# Altium footprint library PcbLib1.PcbLib: 3 footprints
Each footprint in its own frame and in the unit in brackets; x right, y up, seen from the top. Pads: shape width x height; smd on the part's side, far side on the other; paste and mask are expansions set on the pad; w line width, h text height; cw(c..) or ccw(c..) is an arc to the next point about the centre after c.
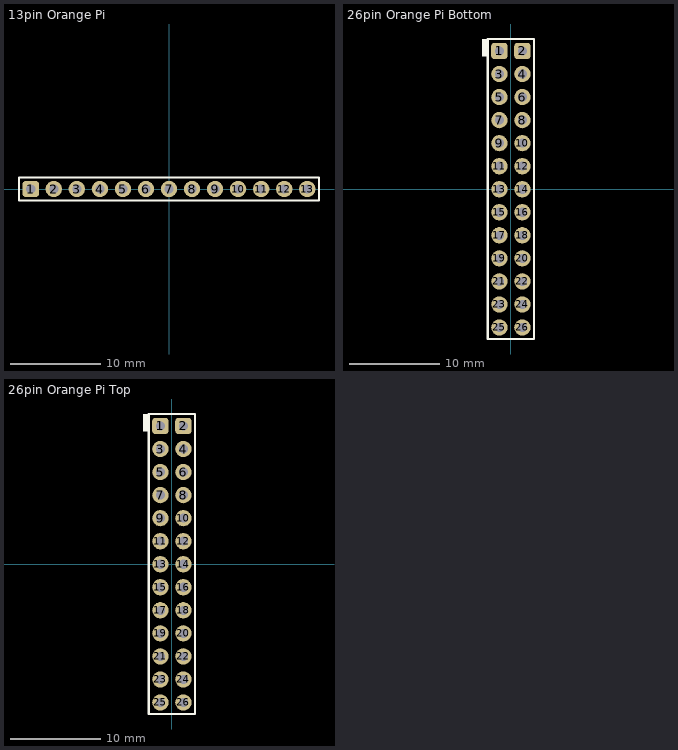
[diagram p0: the footprints below, top view; thin cyan lines are the x and y axes]

## 13pin Orange Pi [mm]
pads (13):
  rrect40% 1.8x1.8 hole 1: 1(-15.24,0)
  round 1.8 hole 1: 2(-12.7,0) 3(-10.16,0) 4(-7.62,0) 5(-5.08,0) 6(-2.54,0) 7(0,0) 8(2.54,0) 9(5.08,0) 10(7.62,0) 11(10.16,0) 12(12.7,0) 13(15.24,0)
Top Overlay:
  lines w0.254: -16.535,-1.27 16.535,-1.27 16.535,1.27 -16.535,1.27 -16.535,-1.27
Mechanical 9:
  text ".Comment" at -3.066,-0.6 h0.8
3D body "1x13pin.stp": height 8.68, standoff -2.88, extent -16.51,-1.778 16.51,1.778

## 26pin Orange Pi Bottom [mm]
pads (26):
  rrect40% 1.8x1.8 hole 1: 1(-1.27,15.24) 2(1.27,15.24)
  round 1.8 hole 1: 3(-1.27,12.7) 4(1.27,12.7) 5(-1.27,10.16) 6(1.27,10.16) 7(-1.27,7.62) 8(1.27,7.62) 9(-1.27,5.08) 10(1.27,5.08) 11(-1.27,2.54) 12(1.27,2.54) 13(-1.27,0) 14(1.27,0) 15(-1.27,-2.54) 16(1.27,-2.54) 17(-1.27,-5.08) 18(1.27,-5.08) 19(-1.27,-7.62) 20(1.27,-7.62) 21(-1.27,-10.16) 22(1.27,-10.16) 23(-1.27,-12.7) 24(1.27,-12.7) 25(-1.27,-15.24) 26(1.27,-15.24)
Top Overlay:
  rectangle: -3.175,14.605 -2.54,16.561
  lines w0.254: -2.54,13.97 -2.54,16.561 ; -2.54,16.561 -2.54,-16.51 2.54,-16.51 2.54,16.561 -2.54,16.561
Mechanical 9:
  text ".Comment" at -3.066,-0.6 h0.8
3D body "2x26pin.stp": height 2.5, standoff -9, extent -2.53,-16.51 2.53,16.51

## 26pin Orange Pi Top [mm]
pads (26):
  rrect40% 1.8x1.8 hole 1: 1(-1.27,15.24) 2(1.27,15.24)
  round 1.8 hole 1: 3(-1.27,12.7) 4(1.27,12.7) 5(-1.27,10.16) 6(1.27,10.16) 7(-1.27,7.62) 8(1.27,7.62) 9(-1.27,5.08) 10(1.27,5.08) 11(-1.27,2.54) 12(1.27,2.54) 13(-1.27,0) 14(1.27,0) 15(-1.27,-2.54) 16(1.27,-2.54) 17(-1.27,-5.08) 18(1.27,-5.08) 19(-1.27,-7.62) 20(1.27,-7.62) 21(-1.27,-10.16) 22(1.27,-10.16) 23(-1.27,-12.7) 24(1.27,-12.7) 25(-1.27,-15.24) 26(1.27,-15.24)
Top Overlay:
  rectangle: -3.175,14.605 -2.54,16.561
  lines w0.254: -2.54,13.97 -2.54,16.561 ; -2.54,16.561 -2.54,-16.51 2.54,-16.51 2.54,16.561 -2.54,16.561
Mechanical 9:
  text ".Comment" at -3.066,-0.6 h0.8
3D body "2x26pin.stp": height 9, standoff -2.5, extent -2.53,-16.51 2.53,16.51